# Altium schematic symbol library Chips.SchLib: 1 symbol
Pins are listed as number, name and electrical type; pins without a type are passive.

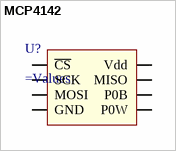
[diagram p0: symbol MCP4142]

## MCP4142
designator U?
цифровой потенциометр
pins: 1 ~{CS}, 2 SCK, 3 MOSI, 4 GND, 5 P0W, 6 P0B, 7 MISO, 8 Vdd